# Altium footprint library Nichicon100uFCap.PcbLib: 1 footprints
Each footprint in its own frame and in the unit in brackets; x right, y up, seen from the top. Pads: shape width x height; smd on the part's side, far side on the other; paste and mask are expansions set on the pad; w line width, h text height; cw(c..) or ccw(c..) is an arc to the next point about the centre after c.
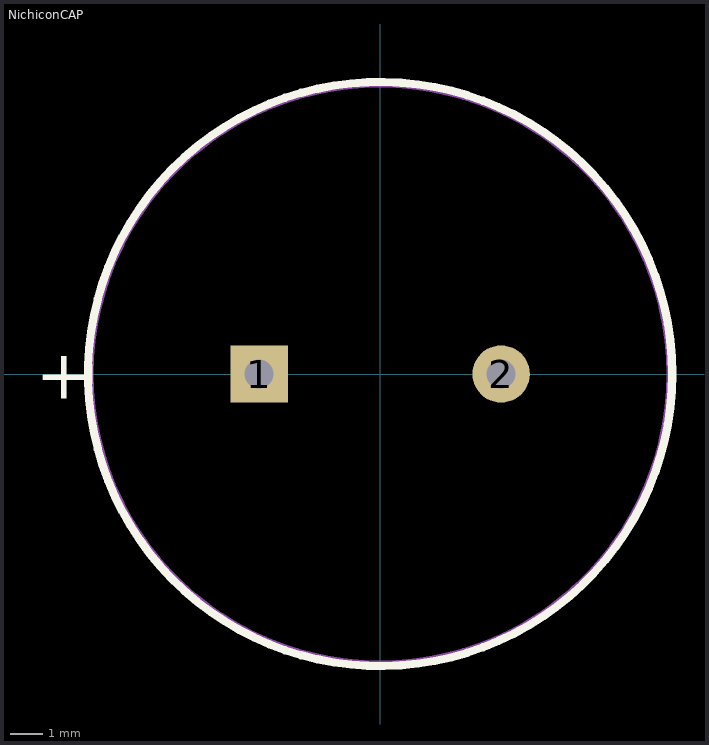
[diagram p0: the footprint, top view; thin cyan lines are the x and y axes]

## NichiconCAP [mil]
pads (2):
  rect 70x70 hole 35.43: 1(-147.64,0)
  round 70 hole 35.43: 2(147.64,0)
Top Overlay:
  circle w10: c0,0 r356.3
  text "+" at -420,-30 h60
Mechanical 1:
  circle w10: c0,0 r354.33